# Altium footprint library XH，VH.PcbLib: 67 footprints (part 2 of 5)
Each footprint in its own frame and in the unit in brackets; x right, y up, seen from the top. Pads: shape width x height; smd on the part's side, far side on the other; paste and mask are expansions set on the pad; w line width, h text height; cw(c..) or ccw(c..) is an arc to the next point about the centre after c.
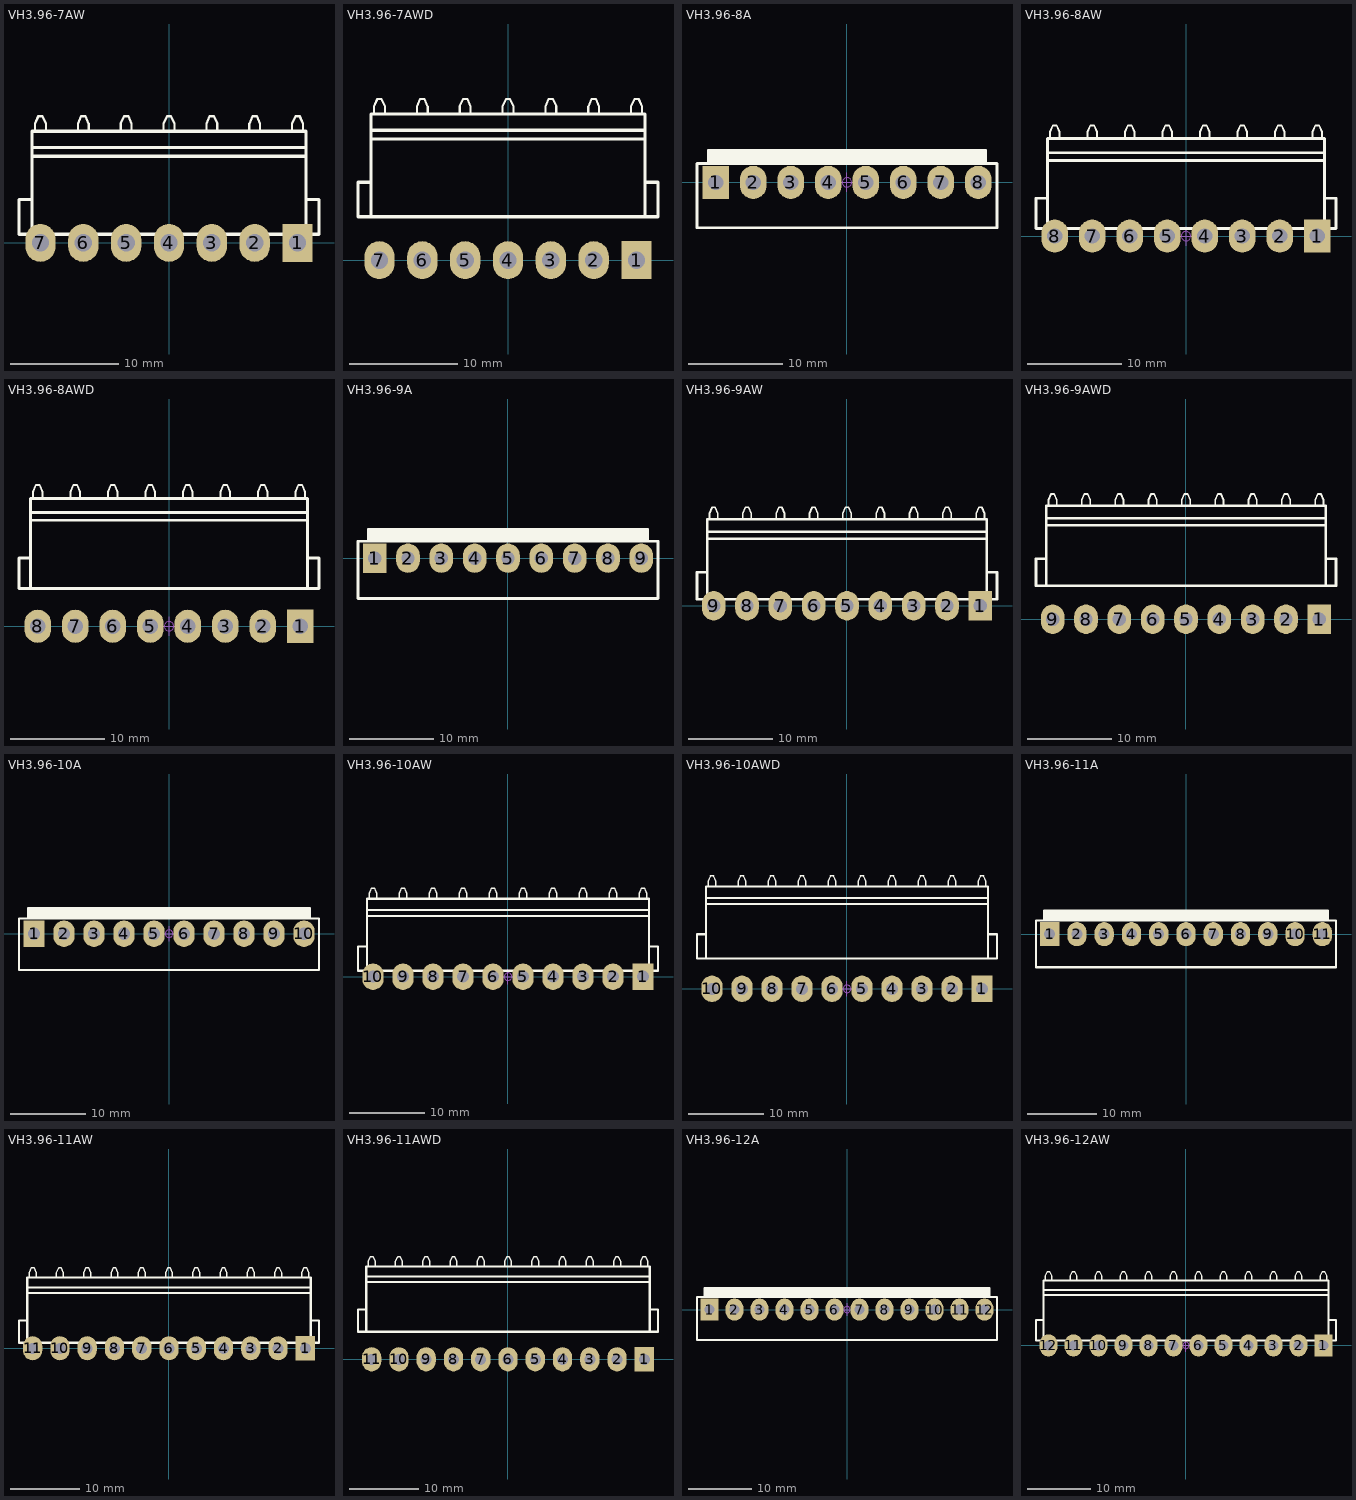
[diagram p1: the footprints below, top view; thin cyan lines are the x and y axes]

## VH3.96-7AW [mm]
pads (7):
  rect 2.8x3.5 hole 1.6: 1(11.88,0)
  oval 2.8x3.5 hole 1.6: 2(7.92,0) 3(3.96,0) 4(0,0) 5(-3.96,0) 6(-7.92,0) 7(-11.88,0)
Top Overlay:
  lines w0.2: -12.38,10.3 -12.38,11 -12.08,11.7 -11.68,11.7 -11.38,11 -11.38,10.3 ; -8.42,10.3 -8.42,11 -8.12,11.7 -7.72,11.7 -7.42,11 -7.42,10.3 ; -4.46,10.3 -4.46,11 -4.16,11.7 -3.76,11.7 -3.46,11 -3.46,10.3 ; -0.5,10.3 -0.5,11 -0.2,11.7 0.2,11.7 0.5,11 0.5,10.3 ; 3.46,10.3 3.46,11 3.76,11.7 4.16,11.7 4.46,11 4.46,10.3 ; 7.42,10.3 7.42,11 7.72,11.7 8.12,11.7 8.42,11 8.42,10.3 ; 11.38,10.3 11.38,11 11.68,11.7 12.08,11.7 12.38,11 12.38,10.3
  lines w0.3: -12.66,0.8 -12.66,10.3 12.66,10.3 12.66,0.8 ; -12.66,4 -13.86,4 -13.86,0.8 13.86,0.8 13.86,4 12.66,4 ; -12.66,8 12.66,8 ; -12.66,8.8 12.66,8.8
Mechanical 15:
  circle w0.1: c0,0 r0.5
  lines w0.1: -1,0 1,0 ; 0,-1 0,1
3D body "VH3.96-7AW.STEP": height 8.4, standoff -3.6, extent -13.86,-0.55 13.86,11.7

## VH3.96-7AWD [mm]
pads (7):
  rect 2.8x3.5 hole 1.6: 1(11.88,0)
  oval 2.8x3.5 hole 1.6: 2(7.92,0) 3(3.96,0) 4(0,0) 5(-3.96,0) 6(-7.92,0) 7(-11.88,0)
Top Overlay:
  lines w0.2: -12.38,13.5 -12.38,14.2 -12.08,14.9 -11.68,14.9 -11.38,14.2 -11.38,13.5 ; -8.42,13.5 -8.42,14.2 -8.12,14.9 -7.72,14.9 -7.42,14.2 -7.42,13.5 ; -4.46,13.5 -4.46,14.2 -4.16,14.9 -3.76,14.9 -3.46,14.2 -3.46,13.5 ; -0.5,13.5 -0.5,14.2 -0.2,14.9 0.2,14.9 0.5,14.2 0.5,13.5 ; 3.46,13.5 3.46,14.2 3.76,14.9 4.16,14.9 4.46,14.2 4.46,13.5 ; 7.42,13.5 7.42,14.2 7.72,14.9 8.12,14.9 8.42,14.2 8.42,13.5 ; 11.38,13.5 11.38,14.2 11.68,14.9 12.08,14.9 12.38,14.2 12.38,13.5
  lines w0.3: -12.66,4 -12.66,13.5 12.66,13.5 12.66,4 ; -12.66,7.2 -13.86,7.2 -13.86,4 13.86,4 13.86,7.2 12.66,7.2 ; -12.66,11.2 12.66,11.2 ; -12.66,12 12.66,12
Mechanical 15:
  circle w0.1: c0,0 r0.5
  lines w0.1: -1,0 1,0 ; 0,-1 0,1
3D body "VH3.96-7AW.STEP": height 8.4, standoff -3.6, extent -13.86,-0.55 13.86,14.9

## VH3.96-8A [mm]
pads (8):
  rect 2.8x3.5 hole 1.6: 1(-13.86,0)
  oval 2.8x3.5 hole 1.6: 2(-9.9,0) 3(-5.94,0) 4(-1.98,0) 5(1.98,0) 6(5.94,0) 7(9.9,0) 8(13.86,0)
Top Overlay:
  lines w0.3: -14.64,2 -14.64,3.4 14.64,3.4 14.64,2 ; -14.64,2.159 14.64,2.159 ; -14.64,2.413 14.64,2.413 ; -14.64,2.667 14.64,2.667 ; -14.64,2.921 14.64,2.921 ; -14.64,3.175 14.64,3.175 ; -15.84,-4.8 15.84,-4.8 15.84,2 -15.84,2 -15.84,-4.8
Mechanical 15:
  circle w0.1: c0,0 r0.5
  lines w0.1: -1,0 1,0 ; 0,-1 0,1
3D body "VH3.96-8A.STEP": height 14.6, standoff -3.6, extent -15.84,-4.8 15.84,3.6

## VH3.96-8AW [mm]
pads (8):
  rect 2.8x3.5 hole 1.6: 1(13.86,0)
  oval 2.8x3.5 hole 1.6: 2(9.9,0) 3(5.94,0) 4(1.98,0) 5(-1.98,0) 6(-5.94,0) 7(-9.9,0) 8(-13.86,0)
Top Overlay:
  lines w0.2: -14.36,10.3 -14.36,11 -14.06,11.7 -13.66,11.7 -13.36,11 -13.36,10.3 ; -10.4,10.3 -10.4,11 -10.1,11.7 -9.7,11.7 -9.4,11 -9.4,10.3 ; -6.44,10.3 -6.44,11 -6.14,11.7 -5.74,11.7 -5.44,11 -5.44,10.3 ; -2.48,10.3 -2.48,11 -2.18,11.7 -1.78,11.7 -1.48,11 -1.48,10.3 ; 1.48,10.3 1.48,11 1.78,11.7 2.18,11.7 2.48,11 2.48,10.3 ; 5.44,10.3 5.44,11 5.74,11.7 6.14,11.7 6.44,11 6.44,10.3 ; 9.4,10.3 9.4,11 9.7,11.7 10.1,11.7 10.4,11 10.4,10.3 ; 13.36,10.3 13.36,11 13.66,11.7 14.06,11.7 14.36,11 14.36,10.3
  lines w0.3: -14.64,0.8 -14.64,10.3 14.64,10.3 14.64,0.8 ; -14.64,4 -15.84,4 -15.84,0.8 15.84,0.8 15.84,4 14.64,4 ; -14.64,8 14.64,8 ; -14.64,8.8 14.64,8.8
Mechanical 15:
  circle w0.1: c0,0 r0.5
  lines w0.1: -1,0 1,0 ; 0,-1 0,1
3D body "VH3.96-8AW.STEP": height 8.4, standoff -3.6, extent -15.84,-0.55 15.84,11.7

## VH3.96-8AWD [mm]
pads (8):
  rect 2.8x3.5 hole 1.6: 1(13.86,0)
  oval 2.8x3.5 hole 1.6: 2(9.9,0) 3(5.94,0) 4(1.98,0) 5(-1.98,0) 6(-5.94,0) 7(-9.9,0) 8(-13.86,0)
Top Overlay:
  lines w0.2: -14.36,13.5 -14.36,14.2 -14.06,14.9 -13.66,14.9 -13.36,14.2 -13.36,13.5 ; -10.4,13.5 -10.4,14.2 -10.1,14.9 -9.7,14.9 -9.4,14.2 -9.4,13.5 ; -6.44,13.5 -6.44,14.2 -6.14,14.9 -5.74,14.9 -5.44,14.2 -5.44,13.5 ; -2.48,13.5 -2.48,14.2 -2.18,14.9 -1.78,14.9 -1.48,14.2 -1.48,13.5 ; 1.48,13.5 1.48,14.2 1.78,14.9 2.18,14.9 2.48,14.2 2.48,13.5 ; 5.44,13.5 5.44,14.2 5.74,14.9 6.14,14.9 6.44,14.2 6.44,13.5 ; 9.4,13.5 9.4,14.2 9.7,14.9 10.1,14.9 10.4,14.2 10.4,13.5 ; 13.36,13.5 13.36,14.2 13.66,14.9 14.06,14.9 14.36,14.2 14.36,13.5
  lines w0.3: -14.64,4 -14.64,13.5 14.64,13.5 14.64,4 ; -14.64,7.2 -15.84,7.2 -15.84,4 15.84,4 15.84,7.2 14.64,7.2 ; -14.64,11.2 14.64,11.2 ; -14.64,12 14.64,12
Mechanical 15:
  circle w0.1: c0,0 r0.5
  lines w0.1: -1,0 1,0 ; 0,-1 0,1
3D body "VH3.96-8AW.STEP": height 8.4, standoff -3.6, extent -15.84,-0.55 15.84,14.9

## VH3.96-9A [mm]
pads (9):
  rect 2.8x3.5 hole 1.6: 1(-15.84,0)
  oval 2.8x3.5 hole 1.6: 2(-11.88,0) 3(-7.92,0) 4(-3.96,0) 5(0,0) 6(3.96,0) 7(7.92,0) 8(11.88,0) 9(15.84,0)
Top Overlay:
  lines w0.3: -16.62,2 -16.62,3.4 16.62,3.4 16.62,2 ; -16.62,2.159 16.62,2.159 ; -16.62,2.413 16.62,2.413 ; -16.62,2.667 16.62,2.667 ; -16.62,2.921 16.62,2.921 ; -16.62,3.175 16.62,3.175 ; -17.82,-4.8 -17.82,2 17.82,2 17.82,-4.8 -17.82,-4.8
Mechanical 15:
  circle w0.1: c0,0 r0.5
  lines w0.1: -1,0 1,0 ; 0,-1 0,1
3D body "VH3.96-9A.STEP": height 14.6, standoff -3.6, extent -17.82,-4.8 17.82,3.6

## VH3.96-9AW [mm]
pads (9):
  rect 2.8x3.5 hole 1.6: 1(15.84,0)
  oval 2.8x3.5 hole 1.6: 2(11.88,0) 3(7.92,0) 4(3.96,0) 5(0,0) 6(-3.96,0) 7(-7.92,0) 8(-11.88,0) 9(-15.84,0)
Top Overlay:
  lines w0.2: -16.34,10.3 -16.34,11 -16.04,11.7 -15.64,11.7 -15.34,11 -15.34,10.3 ; -12.38,10.3 -12.38,11 -12.08,11.7 -11.68,11.7 -11.38,11 -11.38,10.3 ; -8.42,10.3 -8.42,11 -8.12,11.7 -7.72,11.7 -7.42,11 -7.42,10.3 ; -4.46,10.3 -4.46,11 -4.16,11.7 -3.76,11.7 -3.46,11 -3.46,10.3 ; -0.5,10.3 -0.5,11 -0.2,11.7 0.2,11.7 0.5,11 0.5,10.3 ; 3.46,10.3 3.46,11 3.76,11.7 4.16,11.7 4.46,11 4.46,10.3 ; 7.42,10.3 7.42,11 7.72,11.7 8.12,11.7 8.42,11 8.42,10.3 ; 11.38,10.3 11.38,11 11.68,11.7 12.08,11.7 12.38,11 12.38,10.3 ; 15.34,10.3 15.34,11 15.64,11.7 16.04,11.7 16.34,11 16.34,10.3
  lines w0.3: -16.62,0.8 -16.62,10.3 16.62,10.3 16.62,0.8 ; -16.62,4 -17.82,4 -17.82,0.8 17.82,0.8 17.82,4 16.62,4 ; -16.62,8 16.62,8 ; -16.62,8.8 16.62,8.8
Mechanical 15:
  circle w0.1: c0,0 r0.5
  lines w0.1: -1,0 1,0 ; 0,-1 0,1
3D body "VH3.96-9AW.STEP": height 8.4, standoff -3.6, extent -17.82,-0.55 17.82,11.7

## VH3.96-9AWD [mm]
pads (9):
  rect 2.8x3.5 hole 1.6: 1(15.84,0)
  oval 2.8x3.5 hole 1.6: 2(11.88,0) 3(7.92,0) 4(3.96,0) 5(0,0) 6(-3.96,0) 7(-7.92,0) 8(-11.88,0) 9(-15.84,0)
Top Overlay:
  lines w0.2: -16.34,13.5 -16.34,14.2 -16.04,14.9 -15.64,14.9 -15.34,14.2 -15.34,13.5 ; -12.38,13.5 -12.38,14.2 -12.08,14.9 -11.68,14.9 -11.38,14.2 -11.38,13.5 ; -8.42,13.5 -8.42,14.2 -8.12,14.9 -7.72,14.9 -7.42,14.2 -7.42,13.5 ; -4.46,13.5 -4.46,14.2 -4.16,14.9 -3.76,14.9 -3.46,14.2 -3.46,13.5 ; -0.5,13.5 -0.5,14.2 -0.2,14.9 0.2,14.9 0.5,14.2 0.5,13.5 ; 3.46,13.5 3.46,14.2 3.76,14.9 4.16,14.9 4.46,14.2 4.46,13.5 ; 7.42,13.5 7.42,14.2 7.72,14.9 8.12,14.9 8.42,14.2 8.42,13.5 ; 11.38,13.5 11.38,14.2 11.68,14.9 12.08,14.9 12.38,14.2 12.38,13.5 ; 15.34,13.5 15.34,14.2 15.64,14.9 16.04,14.9 16.34,14.2 16.34,13.5
  lines w0.3: -16.62,4 -16.62,13.5 16.62,13.5 16.62,4 ; -16.62,7.2 -17.82,7.2 -17.82,4 17.82,4 17.82,7.2 16.62,7.2 ; -16.62,11.2 16.62,11.2 ; -16.62,12 16.62,12
Mechanical 15:
  circle w0.1: c0,0 r0.5
  lines w0.1: -1,0 1,0 ; 0,-1 0,1
3D body "VH3.96-9AW.STEP": height 8.4, standoff -3.6, extent -17.82,-0.55 17.82,14.9

## VH3.96-10A [mm]
pads (10):
  rect 2.8x3.5 hole 1.6: 1(-17.82,0)
  oval 2.8x3.5 hole 1.6: 2(-13.86,0) 3(-9.9,0) 4(-5.94,0) 5(-1.98,0) 6(1.98,0) 7(5.94,0) 8(9.9,0) 9(13.86,0) 10(17.82,0)
Top Overlay:
  lines w0.3: -18.6,2 -18.6,3.4 18.6,3.4 18.6,2 ; -18.6,2.159 18.6,2.159 ; -18.6,2.413 18.6,2.413 ; -18.6,2.667 18.6,2.667 ; -18.6,2.921 18.6,2.921 ; -18.6,3.175 18.6,3.175 ; -19.8,-4.8 19.8,-4.8 19.8,2 -19.8,2 -19.8,-4.8
Mechanical 15:
  circle w0.1: c0,0 r0.5
  lines w0.1: -1,0 1,0 ; 0,-1 0,1
3D body "VH3.96-10A.STEP": height 14.6, standoff -3.6, extent -19.8,-4.8 19.8,3.6

## VH3.96-10AW [mm]
pads (10):
  rect 2.8x3.5 hole 1.6: 1(17.82,0)
  oval 2.8x3.5 hole 1.6: 2(13.86,0) 3(9.9,0) 4(5.94,0) 5(1.98,0) 6(-1.98,0) 7(-5.94,0) 8(-9.9,0) 9(-13.86,0) 10(-17.82,0)
Top Overlay:
  lines w0.2: -18.32,10.3 -18.32,11 -18.02,11.7 -17.62,11.7 -17.32,11 -17.32,10.3 ; -14.36,10.3 -14.36,11 -14.06,11.7 -13.66,11.7 -13.36,11 -13.36,10.3 ; -10.4,10.3 -10.4,11 -10.1,11.7 -9.7,11.7 -9.4,11 -9.4,10.3 ; -6.44,10.3 -6.44,11 -6.14,11.7 -5.74,11.7 -5.44,11 -5.44,10.3 ; -2.48,10.3 -2.48,11 -2.18,11.7 -1.78,11.7 -1.48,11 -1.48,10.3 ; 1.48,10.3 1.48,11 1.78,11.7 2.18,11.7 2.48,11 2.48,10.3 ; 5.44,10.3 5.44,11 5.74,11.7 6.14,11.7 6.44,11 6.44,10.3 ; 9.4,10.3 9.4,11 9.7,11.7 10.1,11.7 10.4,11 10.4,10.3 ; 13.36,10.3 13.36,11 13.66,11.7 14.06,11.7 14.36,11 14.36,10.3 ; 17.32,10.3 17.32,11 17.62,11.7 18.02,11.7 18.32,11 18.32,10.3
  lines w0.3: -18.6,0.8 -18.6,10.3 18.6,10.3 18.6,0.8 ; -18.6,4 -19.8,4 -19.8,0.8 19.8,0.8 19.8,4 18.6,4 ; -18.6,8 18.6,8 ; -18.6,8.8 18.6,8.8
Mechanical 15:
  circle w0.1: c0,0 r0.5
  lines w0.1: -1,0 1,0 ; 0,-1 0,1
3D body "VH3.96-10AW.STEP": height 8.4, standoff -3.6, extent -19.8,-0.55 19.8,11.7

## VH3.96-10AWD [mm]
pads (10):
  rect 2.8x3.5 hole 1.6: 1(17.82,0)
  oval 2.8x3.5 hole 1.6: 2(13.86,0) 3(9.9,0) 4(5.94,0) 5(1.98,0) 6(-1.98,0) 7(-5.94,0) 8(-9.9,0) 9(-13.86,0) 10(-17.82,0)
Top Overlay:
  lines w0.2: -18.32,13.5 -18.32,14.2 -18.02,14.9 -17.62,14.9 -17.32,14.2 -17.32,13.5 ; -14.36,13.5 -14.36,14.2 -14.06,14.9 -13.66,14.9 -13.36,14.2 -13.36,13.5 ; -10.4,13.5 -10.4,14.2 -10.1,14.9 -9.7,14.9 -9.4,14.2 -9.4,13.5 ; -6.44,13.5 -6.44,14.2 -6.14,14.9 -5.74,14.9 -5.44,14.2 -5.44,13.5 ; -2.48,13.5 -2.48,14.2 -2.18,14.9 -1.78,14.9 -1.48,14.2 -1.48,13.5 ; 1.48,13.5 1.48,14.2 1.78,14.9 2.18,14.9 2.48,14.2 2.48,13.5 ; 5.44,13.5 5.44,14.2 5.74,14.9 6.14,14.9 6.44,14.2 6.44,13.5 ; 9.4,13.5 9.4,14.2 9.7,14.9 10.1,14.9 10.4,14.2 10.4,13.5 ; 13.36,13.5 13.36,14.2 13.66,14.9 14.06,14.9 14.36,14.2 14.36,13.5 ; 17.32,13.5 17.32,14.2 17.62,14.9 18.02,14.9 18.32,14.2 18.32,13.5
  lines w0.3: -18.6,4 -18.6,13.5 18.6,13.5 18.6,4 ; -18.6,7.2 -19.8,7.2 -19.8,4 19.8,4 19.8,7.2 18.6,7.2 ; -18.6,11.2 18.6,11.2 ; -18.6,12 18.6,12
Mechanical 15:
  circle w0.1: c0,0 r0.5
  lines w0.1: -1,0 1,0 ; 0,-1 0,1
3D body "VH3.96-10AW.STEP": height 8.4, standoff -3.6, extent -19.8,-0.55 19.8,14.9

## VH3.96-11A [mm]
pads (11):
  rect 2.8x3.5 hole 1.6: 1(-19.8,0)
  oval 2.8x3.5 hole 1.6: 2(-15.84,0) 3(-11.88,0) 4(-7.92,0) 5(-3.96,0) 6(0,0) 7(3.96,0) 8(7.92,0) 9(11.88,0) 10(15.84,0) 11(19.8,0)
Top Overlay:
  lines w0.3: -20.58,2 -20.58,3.4 20.58,3.4 20.58,2 ; -20.58,2.159 20.58,2.159 ; -20.58,2.413 20.58,2.413 ; -20.58,2.667 20.58,2.667 ; -20.58,2.921 20.58,2.921 ; -20.58,3.175 20.58,3.175 ; -21.78,-4.8 -21.78,2 21.78,2 21.78,-4.8 -21.78,-4.8
Mechanical 15:
  circle w0.1: c0,0 r0.5
  lines w0.1: -1,0 1,0 ; 0,-1 0,1
3D body "VH3.96-11A.STEP": height 14.6, standoff -3.6, extent -21.78,-4.8 21.78,3.6

## VH3.96-11AW [mm]
pads (11):
  rect 2.8x3.5 hole 1.6: 1(19.8,0)
  oval 2.8x3.5 hole 1.6: 2(15.84,0) 3(11.88,0) 4(7.92,0) 5(3.96,0) 6(0,0) 7(-3.96,0) 8(-7.92,0) 9(-11.88,0) 10(-15.84,0) 11(-19.8,0)
Top Overlay:
  lines w0.2: -20.3,10.3 -20.3,11 -20,11.7 -19.6,11.7 -19.3,11 -19.3,10.3 ; -16.34,10.3 -16.34,11 -16.04,11.7 -15.64,11.7 -15.34,11 -15.34,10.3 ; -12.38,10.3 -12.38,11 -12.08,11.7 -11.68,11.7 -11.38,11 -11.38,10.3 ; -8.42,10.3 -8.42,11 -8.12,11.7 -7.72,11.7 -7.42,11 -7.42,10.3 ; -4.46,10.3 -4.46,11 -4.16,11.7 -3.76,11.7 -3.46,11 -3.46,10.3 ; -0.5,10.3 -0.5,11 -0.2,11.7 0.2,11.7 0.5,11 0.5,10.3 ; 3.46,10.3 3.46,11 3.76,11.7 4.16,11.7 4.46,11 4.46,10.3 ; 7.42,10.3 7.42,11 7.72,11.7 8.12,11.7 8.42,11 8.42,10.3 ; 11.38,10.3 11.38,11 11.68,11.7 12.08,11.7 12.38,11 12.38,10.3 ; 15.34,10.3 15.34,11 15.64,11.7 16.04,11.7 16.34,11 16.34,10.3 ; 19.3,10.3 19.3,11 19.6,11.7 20,11.7 20.3,11 20.3,10.3
  lines w0.3: -20.58,0.8 -20.58,10.3 20.58,10.3 20.58,0.8 ; -20.58,4 -21.78,4 -21.78,0.8 21.78,0.8 21.78,4 20.58,4 ; -20.58,8 20.58,8 ; -20.58,8.8 20.58,8.8
Mechanical 15:
  circle w0.1: c0,0 r0.5
  lines w0.1: -1,0 1,0 ; 0,-1 0,1
3D body "VH3.96-11AW.STEP": height 8.4, standoff -3.6, extent -21.78,-0.55 21.78,11.7

## VH3.96-11AWD [mm]
pads (11):
  rect 2.8x3.5 hole 1.6: 1(19.8,0)
  oval 2.8x3.5 hole 1.6: 2(15.84,0) 3(11.88,0) 4(7.92,0) 5(3.96,0) 6(0,0) 7(-3.96,0) 8(-7.92,0) 9(-11.88,0) 10(-15.84,0) 11(-19.8,0)
Top Overlay:
  lines w0.2: -20.3,13.5 -20.3,14.2 -20,14.9 -19.6,14.9 -19.3,14.2 -19.3,13.5 ; -16.34,13.5 -16.34,14.2 -16.04,14.9 -15.64,14.9 -15.34,14.2 -15.34,13.5 ; -12.38,13.5 -12.38,14.2 -12.08,14.9 -11.68,14.9 -11.38,14.2 -11.38,13.5 ; -8.42,13.5 -8.42,14.2 -8.12,14.9 -7.72,14.9 -7.42,14.2 -7.42,13.5 ; -4.46,13.5 -4.46,14.2 -4.16,14.9 -3.76,14.9 -3.46,14.2 -3.46,13.5 ; -0.5,13.5 -0.5,14.2 -0.2,14.9 0.2,14.9 0.5,14.2 0.5,13.5 ; 3.46,13.5 3.46,14.2 3.76,14.9 4.16,14.9 4.46,14.2 4.46,13.5 ; 7.42,13.5 7.42,14.2 7.72,14.9 8.12,14.9 8.42,14.2 8.42,13.5 ; 11.38,13.5 11.38,14.2 11.68,14.9 12.08,14.9 12.38,14.2 12.38,13.5 ; 15.34,13.5 15.34,14.2 15.64,14.9 16.04,14.9 16.34,14.2 16.34,13.5 ; 19.3,13.5 19.3,14.2 19.6,14.9 20,14.9 20.3,14.2 20.3,13.5
  lines w0.3: -20.58,4 -20.58,13.5 20.58,13.5 20.58,4 ; -20.58,7.2 -21.78,7.2 -21.78,4 21.78,4 21.78,7.2 20.58,7.2 ; -20.58,11.2 20.58,11.2 ; -20.58,12 20.58,12
Mechanical 15:
  circle w0.1: c0,0 r0.5
  lines w0.1: -1,0 1,0 ; 0,-1 0,1
3D body "VH3.96-11AW.STEP": height 8.4, standoff -3.6, extent -21.78,-0.55 21.78,14.9

## VH3.96-12A [mm]
pads (12):
  rect 2.8x3.5 hole 1.6: 1(-21.78,0)
  oval 2.8x3.5 hole 1.6: 2(-17.82,0) 3(-13.86,0) 4(-9.9,0) 5(-5.94,0) 6(-1.98,0) 7(1.98,0) 8(5.94,0) 9(9.9,0) 10(13.86,0) 11(17.82,0) 12(21.78,0)
Top Overlay:
  lines w0.3: -22.56,2 -22.56,3.4 22.56,3.4 22.56,2 ; -22.56,2.159 22.56,2.159 ; -22.56,2.413 22.56,2.413 ; -22.56,2.667 22.56,2.667 ; -22.56,2.921 22.56,2.921 ; -22.56,3.175 22.56,3.175 ; -23.76,-4.8 23.76,-4.8 23.76,2 -23.76,2 -23.76,-4.8
Mechanical 15:
  circle w0.1: c0,0 r0.5
  lines w0.1: -1,0 1,0 ; 0,-1 0,1
3D body "VH3.96-12A.STEP": height 14.6, standoff -3.6, extent -23.76,-4.8 23.76,3.6

## VH3.96-12AW [mm]
pads (12):
  rect 2.8x3.5 hole 1.6: 1(21.78,0)
  oval 2.8x3.5 hole 1.6: 2(17.82,0) 3(13.86,0) 4(9.9,0) 5(5.94,0) 6(1.98,0) 7(-1.98,0) 8(-5.94,0) 9(-9.9,0) 10(-13.86,0) 11(-17.82,0) 12(-21.78,0)
Top Overlay:
  lines w0.2: -22.28,10.3 -22.28,11 -21.98,11.7 -21.58,11.7 -21.28,11 -21.28,10.3 ; -18.32,10.3 -18.32,11 -18.02,11.7 -17.62,11.7 -17.32,11 -17.32,10.3 ; -14.36,10.3 -14.36,11 -14.06,11.7 -13.66,11.7 -13.36,11 -13.36,10.3 ; -10.4,10.3 -10.4,11 -10.1,11.7 -9.7,11.7 -9.4,11 -9.4,10.3 ; -6.44,10.3 -6.44,11 -6.14,11.7 -5.74,11.7 -5.44,11 -5.44,10.3 ; -2.48,10.3 -2.48,11 -2.18,11.7 -1.78,11.7 -1.48,11 -1.48,10.3 ; 1.48,10.3 1.48,11 1.78,11.7 2.18,11.7 2.48,11 2.48,10.3 ; 5.44,10.3 5.44,11 5.74,11.7 6.14,11.7 6.44,11 6.44,10.3 ; 9.4,10.3 9.4,11 9.7,11.7 10.1,11.7 10.4,11 10.4,10.3 ; 13.36,10.3 13.36,11 13.66,11.7 14.06,11.7 14.36,11 14.36,10.3 ; 17.32,10.3 17.32,11 17.62,11.7 18.02,11.7 18.32,11 18.32,10.3 ; 21.28,10.3 21.28,11 21.58,11.7 21.98,11.7 22.28,11 22.28,10.3
  lines w0.3: -22.56,0.8 -22.56,10.3 22.56,10.3 22.56,0.8 ; -22.56,4 -23.76,4 -23.76,0.8 23.76,0.8 23.76,4 22.56,4 ; -22.56,8 22.56,8 ; -22.56,8.8 22.56,8.8
Mechanical 15:
  circle w0.1: c0,0 r0.5
  lines w0.1: -1,0 1,0 ; 0,-1 0,1
3D body "VH3.96-12AW.STEP": height 8.4, standoff -3.6, extent -23.76,-0.55 23.76,11.7